# EAGLE library part TAS5727_PHP_48 (library TAS5727)
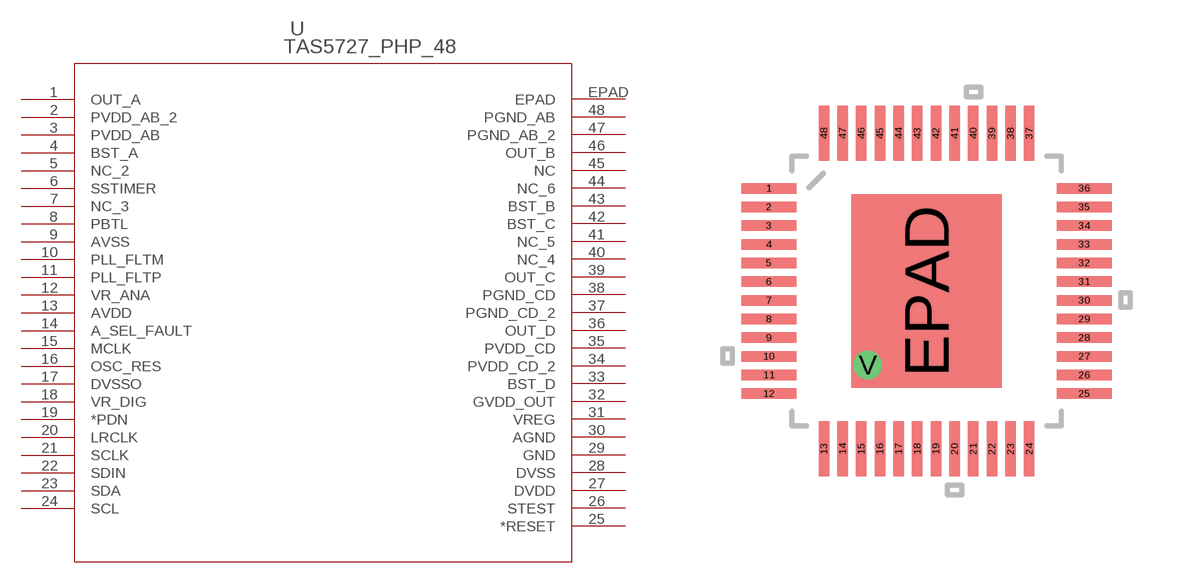
[diagram p0: symbol with the pads of PHP48_5P17X4P04; footprint PHP48_5P17X4P04]

Designator prefix U

## TAS5727_PHP_48 (DATASHEETURL: http://www.ti.com/lit/gpn/TAS5727; DESCRIPTION: 25-W Digital Audio Power Amplifier with EQ and 2-Band DRC; FAMILY_NAME: MID/HIGH-POWER AMPLIFIER; GENERIC_PART_NUMBER: TAS5727; INDUSTRY_STD_PKG_TYPE: HTQFP; MANUFACTURER: Texas Instruments; MANUFACTURER_PART_NUMBER: tas5727_php_48; PACKAGE_DESIGNATOR: PHP; PIN_COUNT: 48; VENDOR: Texas Instruments)  [PHP48_5P17X4P04]
1  OUT_A  out
2  PVDD_AB_2  pwr
3  PVDD_AB  pwr
4  BST_A  pas
5  NC_2  pas
6  SSTIMER  in
7  NC_3  pas
8  PBTL  in
9  AVSS  pwr
10  PLL_FLTM  out
11  PLL_FLTP  out
12  VR_ANA  pwr
13  AVDD  pwr
14  A_SEL_FAULT
15  MCLK  in
16  OSC_RES  out
17  DVSSO  pwr
18  VR_DIG  pwr
19  *PDN  in
20  LRCLK  in
21  SCLK  in
22  SDIN  in
23  SDA
24  SCL  in
25  *RESET  in
26  STEST  in
27  DVDD  pwr
28  DVSS  pwr
29  GND  pwr
30  AGND  pwr
31  VREG  pwr
32  GVDD_OUT  out
33  BST_D  pas
34  PVDD_CD_2  pwr
35  PVDD_CD  pwr
36  OUT_D  out
37  PGND_CD_2  pwr
38  PGND_CD  pwr
39  OUT_C  out
40  NC_4  pas
41  NC_5  pas
42  BST_C  pas
43  BST_B  pas
44  NC_6  pas
45  NC  pas
46  OUT_B  out
47  PGND_AB_2  pwr
48  PGND_AB  pwr
EPAD  EPAD  pas

## Footprint PHP48_5P17X4P04 (pad centres in mm)
smd 1.473 x 0.279: 1 -4.225,2.75; 2 -4.225,2.25; 3 -4.225,1.75; 4 -4.225,1.25; 5 -4.225,0.75; 6 -4.225,0.25; 7 -4.225,-0.25; 8 -4.225,-0.75; 9 -4.225,-1.25; 10 -4.225,-1.75; 11 -4.225,-2.25; 12 -4.225,-2.75; 25 4.225,-2.75; 26 4.225,-2.25; 27 4.225,-1.75; 28 4.225,-1.25; 29 4.225,-0.75; 30 4.225,-0.25; 31 4.225,0.25; 32 4.225,0.75; 33 4.225,1.25; 34 4.225,1.75; 35 4.225,2.25; 36 4.225,2.75
smd 0.279 x 1.473: 13 -2.75,-4.225; 14 -2.25,-4.225; 15 -1.75,-4.225; 16 -1.25,-4.225; 17 -0.75,-4.225; 18 -0.25,-4.225; 19 0.25,-4.225; 20 0.75,-4.225; 21 1.25,-4.225; 22 1.75,-4.225; 23 2.25,-4.225; 24 2.75,-4.225; 37 2.75,4.225; 38 2.25,4.225; 39 1.75,4.225; 40 1.25,4.225; 41 0.75,4.225; 42 0.25,4.225; 43 -0.25,4.225; 44 -0.75,4.225; 45 -1.25,4.225; 46 -1.75,4.225; 47 -2.25,4.225; 48 -2.75,4.225
smd 4.039 x 5.182: EPAD 0,0
drill 0.254: V -1.575,-1.981